# EAGLE library part MPC5604E100 (library lib_stankus)
Freescale MPC5604E
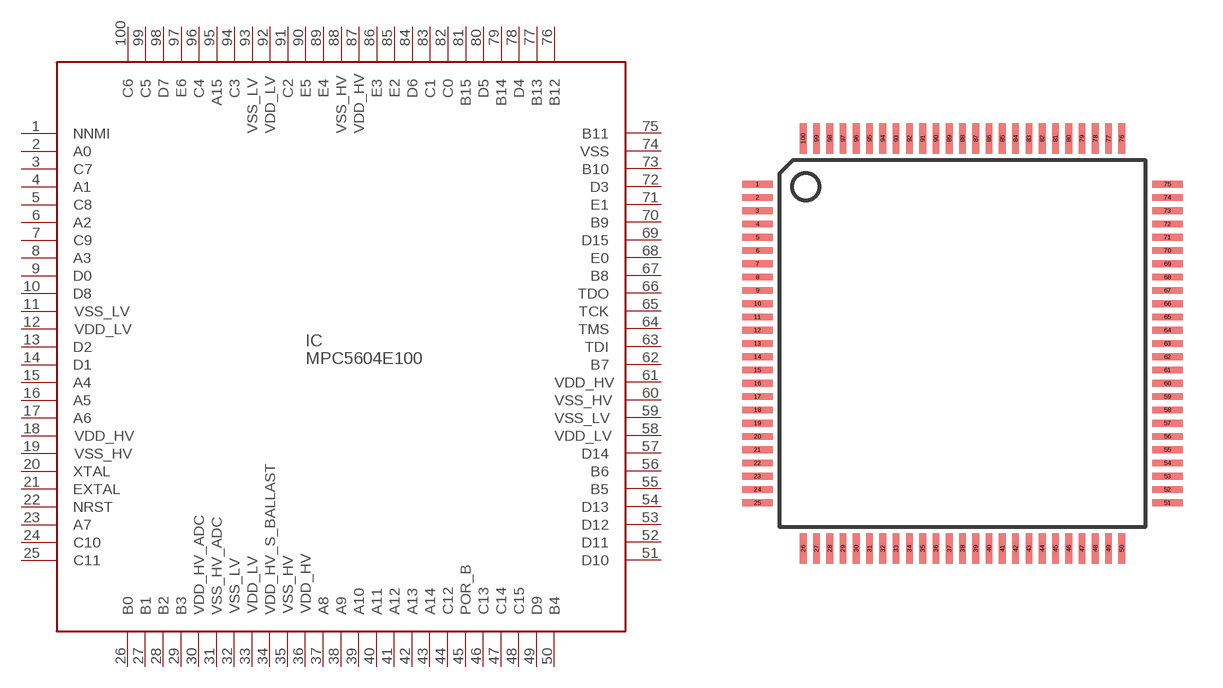
[diagram p40: symbol with the pads of QFP100_14_05; footprint QFP100_14_05]

Designator prefix IC

## MPC5604E100-QFP100  [QFP100_14_05]
1  NNMI  pas
2  A0  pas
3  C7  pas
4  A1  pas
5  C8  pas
6  A2  pas
7  C9  pas
8  A3  pas
9  D0  pas
10  D8  pas
11  VSS_LV  pas
12  VDD_LV  pas
13  D2  pas
14  D1  pas
15  A4  pas
16  A5  pas
17  A6  pas
18  VDD_HV  pas
19  VSS_HV  pas
20  XTAL  pas
21  EXTAL  pas
22  NRST  pas
23  A7  pas
24  C10  pas
25  C11  pas
26  B0  pas
27  B1  pas
28  B2  pas
29  B3  pas
30  VDD_HV_ADC  pas
31  VSS_HV_ADC  pas
32  VSS_LV  pas
33  VDD_LV  pas
34  VDD_HV_S_BALLAST  pas
35  VSS_HV  pas
36  VDD_HV  pas
37  A8  pas
38  A9  pas
39  A10  pas
40  A11  pas
41  A12  pas
42  A13  pas
43  A14  pas
44  C12  pas
45  POR_B  pas
46  C13  pas
47  C14  pas
48  C15  pas
49  D9  pas
50  B4  pas
51  D10  pas
52  D11  pas
53  D12  pas
54  D13  pas
55  B5  pas
56  B6  pas
57  D14  pas
58  VDD_LV  pas
59  VSS_LV  pas
60  VSS_HV  pas
61  VDD_HV  pas
62  B7  pas
63  TDI  pas
64  TMS  pas
65  TCK  pas
66  TDO  pas
67  B8  pas
68  E0  pas
69  D15  pas
70  B9  pas
71  E1  pas
72  D3  pas
73  B10  pas
74  VSS  pas
75  B11  pas
76  B12  pas
77  B13  pas
78  D4  pas
79  B14  pas
80  D5  pas
81  B15  pas
82  C0  pas
83  C1  pas
84  D6  pas
85  E2  pas
86  E3  pas
87  VDD_HV  pas
88  VSS_HV  pas
89  E4  pas
90  E5  pas
91  C2  pas
92  VDD_LV  pas
93  VSS_LV  pas
94  C3  pas
95  A15  pas
96  C4  pas
97  E6  pas
98  D7  pas
99  C5  pas
100  C6  pas

## Footprint QFP100_14_05 (pad centres in mm)
QFP100, 14x14 MM, 0.5 MM
smd 1.143 x 0.254: 1 -7.72,6; 2 -7.72,5.5; 3 -7.72,5; 4 -7.72,4.5; 5 -7.72,4; 6 -7.72,3.5; 7 -7.72,3; 8 -7.72,2.5; 9 -7.72,2; 10 -7.72,1.5; 11 -7.72,1; 12 -7.72,0.5; 13 -7.72,0; 14 -7.72,-0.5; 15 -7.72,-1; 16 -7.72,-1.5; 17 -7.72,-2; 18 -7.72,-2.5; 19 -7.72,-3; 20 -7.72,-3.5; 21 -7.72,-4; 22 -7.72,-4.5; 23 -7.72,-5; 24 -7.72,-5.5; 25 -7.72,-6; 51 7.72,-6; 52 7.72,-5.5; 53 7.72,-5; 54 7.72,-4.5; 55 7.72,-4; 56 7.72,-3.5; 57 7.72,-3; 58 7.72,-2.5; 59 7.72,-2; 60 7.72,-1.5; 61 7.72,-1; 62 7.72,-0.5; 63 7.72,0; 64 7.72,0.5; 65 7.72,1; 66 7.72,1.5; 67 7.72,2; 68 7.72,2.5; 69 7.72,3; 70 7.72,3.5; 71 7.72,4; 72 7.72,4.5; 73 7.72,5; 74 7.72,5.5; 75 7.72,6
smd 0.254 x 1.143: 26 -6,-7.72; 27 -5.5,-7.72; 28 -5,-7.72; 29 -4.5,-7.72; 30 -4,-7.72; 31 -3.5,-7.72; 32 -3,-7.72; 33 -2.5,-7.72; 34 -2,-7.72; 35 -1.5,-7.72; 36 -1,-7.72; 37 -0.5,-7.72; 38 0,-7.72; 39 0.5,-7.72; 40 1,-7.72; 41 1.5,-7.72; 42 2,-7.72; 43 2.5,-7.72; 44 3,-7.72; 45 3.5,-7.72; 46 4,-7.72; 47 4.5,-7.72; 48 5,-7.72; 49 5.5,-7.72; 50 6,-7.72; 76 6,7.72; 77 5.5,7.72; 78 5,7.72; 79 4.5,7.72; 80 4,7.72; 81 3.5,7.72; 82 3,7.72; 83 2.5,7.72; 84 2,7.72; 85 1.5,7.72; 86 1,7.72; 87 0.5,7.72; 88 0,7.72; 89 -0.5,7.72; 90 -1,7.72; 91 -1.5,7.72; 92 -2,7.72; 93 -2.5,7.72; 94 -3,7.72; 95 -3.5,7.72; 96 -4,7.72; 97 -4.5,7.72; 98 -5,7.72; 99 -5.5,7.72; 100 -6,7.72